# Altium schematic symbol library capacitors.SchLib: 29 symbols
Pins are listed as number, name and electrical type; pins without a type are passive.

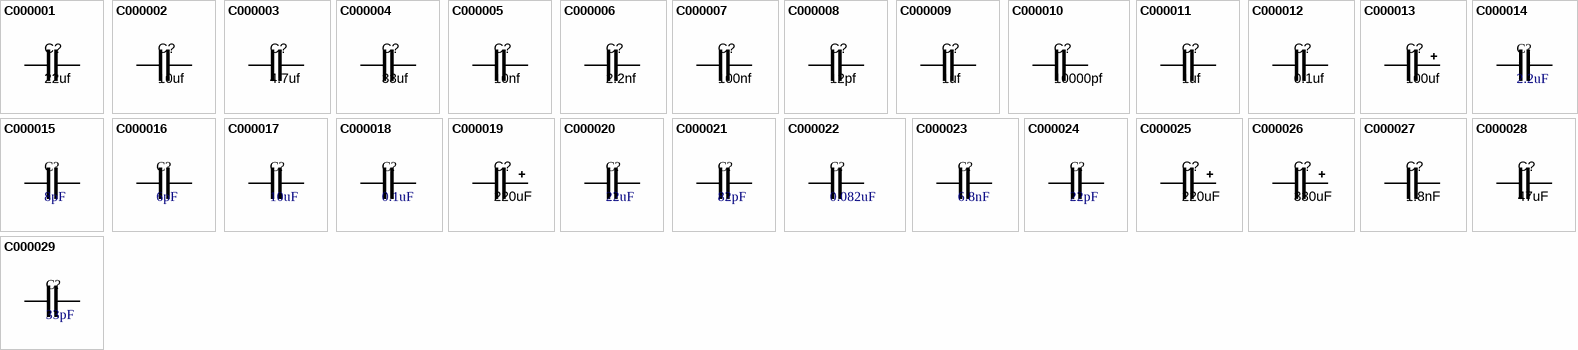
[diagram p0: symbols C000001 to C000029]

## C000001
designator C?, comment 22uf
CAP CER 22uF 0805 25V X5R; capaticanse: 22uf; ComponentLink1Description: digikey; ComponentLink1URL: https://www.digikey.com/en/products/detail/tdk-corporation/C2012X5R1E226M125AC/3661564
footprint CAP_0805 (Chip Capacitor, 2-Leads, Body 2.00x1.25mm, IPC Medium Density)
pins: 1, 2

## C000002
designator C?, comment 10uf
CAP CER 10uF 0805 25V X5R; capaticanse: 10uf; ComponentLink1Description: digikey; ComponentLink1URL: https://www.digikey.com/en/products/detail/tdk-corporation/C2012X5R1E106K125AB/2443462
footprint CAP_0805 (Chip Capacitor, 2-Leads, Body 2.00x1.25mm, IPC Medium Density)
pins: 1, 2

## C000003
designator C?, comment 4.7uf
CAP CER 4.7uF 0805 25V X5R; capaticanse: 4.7uf; ComponentLink1Description: digikey; ComponentLink1URL: https://www.digikey.com/en/products/detail/kemet/C0805C475K3PAC7800/1950665
footprint CAP_0805 (Chip Capacitor, 2-Leads, Body 2.00x1.25mm, IPC Medium Density)
pins: 1, 2

## C000004
designator C?, comment 33uf
CAP CER 33uF 1206 25V X5R; capaticanse: 33uf; ComponentLink1Description: digikey; ComponentLink1URL: https://www.digikey.com/en/products/detail/tdk-corporation/C3216X5R1E336M160AC/2792259
footprint CAP_1206 (Chip Capacitor, 2-Leads, Body 3.20x1.60mm, IPC Medium Density)
pins: 1, 2

## C000005
designator C?, comment 10nf
CAP CER 10nF 0603 25V X7R; capaticanse: 10nf; ComponentLink1Description: digikey; ComponentLink1URL: https://www.digikey.com/en/products/detail/kyocera-avx/06033C103MAT2A/1599370
footprint CAP_0603 (Chip Capacitor, 2-Leads, Body 1.60x0.80mm, IPC Medium Density)
pins: 1, 2

## C000006
designator C?, comment 2.2nf
CAP CER 2.2nF 0603 25V X7R; capaticanse: 2.2nf; ComponentLink1Description: digikey; ComponentLink1URL: https://www.digikey.com/en/products/detail/yageo/CC0603KRX7R8BB222/2345066
footprint CAP_0603 (Chip Capacitor, 2-Leads, Body 1.60x0.80mm, IPC Medium Density)
pins: 1, 2

## C000007
designator C?, comment 100nf
CAP CER 100nF 0603 25V X7R; capaticanse: 100nf; ComponentLink1Description: digikey; ComponentLink1URL: https://www.digikey.com/en/products/detail/kyocera-avx/06033C104K4T2A/8019250
footprint CAP_0603 (Chip Capacitor, 2-Leads, Body 1.60x0.80mm, IPC Medium Density)
pins: 1, 2

## C000008
designator C?, comment 12pf
CAP CER 12pF 0603 25V X7R; capaticanse: 12pf; ComponentLink1Description: digikey; ComponentLink1URL: https://www.digikey.com/en/products/detail/kemet/C0603C120J3GACAUTO/11675595
footprint CAP_0603 (Chip Capacitor, 2-Leads, Body 1.60x0.80mm, IPC Medium Density)
pins: 1, 2

## C000009
designator C?, comment 1uf
CAP CER 1uF 0603 16V X7R; capaticanse: 1uf; ComponentLink1Description: digikey; ComponentLink1URL: https://www.digikey.com/en/products/detail/samsung-electro-mechanics/CL10B105KO8NNNC/3886677; DigiKey part number: 1276-1019-2-ND
footprint CAP_0603 (Chip Capacitor, 2-Leads, Body 1.60x0.80mm, IPC Medium Density)
pins: 1, 2

## C000010
designator C?, comment 10000pf
CAP CER 10000PF 63V X7R 0603; capaticanse: 10000pf; ComponentLink1Description: digikey; ComponentLink1URL: https://www.digikey.com/en/products/detail/knowles-syfer/060330630103KXT/6565244; Digikey part number: 1608-1294-2-ND
footprint CAP_0603 (Chip Capacitor, 2-Leads, Body 1.60x0.80mm, IPC Medium Density)
pins: 1, 2

## C000011
designator C?, comment 1uf
CAP CER 1uF 10V X7R 0603; capaticanse: 1uf; ComponentLink1Description: digikey; ComponentLink1URL: https://www.digikey.com/en/products/detail/samsung-electro-mechanics/CL10B105KP8NNNC/3887604; DigiKey part number: 1276-1946-2-ND
footprint CAP_0603 (Chip Capacitor, 2-Leads, Body 1.60x0.80mm, IPC Medium Density)
pins: 1, 2

## C000012
designator C?, comment 0.1uf
CAP CER 0.1uF 10V X7R 0603; capaticanse: 0.1uf; ComponentLink1Description: digikey; ComponentLink1URL: https://www.digikey.com/en/products/detail/w%C3%BCrth-elektronik/885012206020/5453794; Digikey part number: 732-7939-2-ND
footprint CAP_0603 (Chip Capacitor, 2-Leads, Body 1.60x0.80mm, IPC Medium Density)
pins: 1, 2

## C000013
designator C?, comment 100uf
CAP ALUM POLY 100UF 20% 63V SMD; capaticanse: 100uf; ComponentLink1Description: digikey; ComponentLink1URL: https://www.digikey.com/en/products/detail/kemet/A767MU107M1JLAE028/7392906; DigiKey part number: 399-15648-2-ND
footprint CAPAE7366X60M (Aluminum Electrolytic Capacitor, Body 6.60x6.60x6.00mm, IPC Low Density)
pins: 1, 2

## C000014
designator C?, comment 2.2uF
CAP CER 2.2UF 16V X7S 0603; capaticanse: 2.2uF; ComponentLink1Description: Digikey; ComponentLink1URL: https://www.digikey.com/en/products/detail/murata-electronics/GRM188C71C225KE11D/4905311; Digikey Part Number: 490-12731-1-ND
footprint CAP_0603 (Chip Capacitor, 2-Leads, Body 1.60x0.80mm, IPC Medium Density)
pins: 1, 2

## C000015
designator C?, comment 8pF
CAP CER 8PF 25V C0G/NP0 01005; capacitanse: 8pF; ComponentLink1Description: DigiKey; ComponentLink1URL: https://www.digikey.com/en/products/detail/murata-electronics/GRM0225C1E8R0WA03L/6048112?s=N4IgjCBcoMxaBjKAzAhgGwM4FMA0IB7KAbRAHYAGAVhAF18AHAFyhAGUmAnASwDsBzEAF98YACzwQSSGix5CJcFQCcAJjFk6jFpHZc%2BgkSFUUxyydNk58RSKQAcAAgYAxLSGasAqr25MA8sgAstiomACunNjC%2BAC0qhZQXOHytqQ0tEJGCXZSqAyoCH4EnHRCQA; DigiKey Part Number: 490-13716-2-ND
footprint CAP_0402 (Chip Capacitor, 2-Leads, Body 0.40x0.20mm, IPC Medium Density)
pins: 1, 2

## C000016
designator C?, comment 6pF
CAP CER 6PF 25V C0G/NP0 0402; capacitanse: 6pF; DigiKey Part Number: 399-CBR04C609D3GACCT-ND; ComponentLink1Description: DigiKey; ComponentLink1URL: https://www.digikey.com/en/products/detail/kemet/CBR04C609D3GAC/18137865?s=N4IgjCBcpgLFoDGUBmBDANgZwKYBoQB7KAbXAFYBOAJlgHYQBdAgBwBcoQBlNgJwEsAdgHMQAXwJgAbAhDJI6bPiKkQAZkphyADiasOkbnyGiJIagAZYlWfMW4CxSGSkACFgDE9IdpwCqgvxsAPIoALI4aFgArrw44gQAtNS2UHzRyk5k5ExieUA
footprint CAP_0402 (Chip Capacitor, 2-Leads, Body 0.40x0.20mm, IPC Medium Density)
pins: 1, 2

## C000017
designator C?, comment 10uF
CAP CER 10UF 50V X7R 1206; capacitance: 10uF; ComponentLink1Description: DigiKey; ComponentLink1URL: https://www.digikey.com/en/products/detail/samsung-electro-mechanics/CL31B106KBHNNNE/5961251; DigiKey Part Number: 1276-6767-1-ND
footprint CAP_1206 (Chip Capacitor, 2-Leads, Body 3.20x1.60mm, IPC Medium Density)
pins: 1, 2

## C000018
designator C?, comment 0.1uF
CAP CER 0.1UF 50V X7R 0603; capacitance: 0.1uF; ComponentLink1Description: DigiKey; ComponentLink1URL: https://www.digikey.com/en/products/detail/samsung-electro-mechanics/CL10B104KB8NNNC/3886658; DigiKey Part Number: 1276-1000-1-ND
footprint CAP_0603 (Chip Capacitor, 2-Leads, Body 1.60x0.80mm, IPC Medium Density)
pins: 1, 2

## C000019
designator C?, comment 220uF
CAP ALUM 220UF 20% 50V SMD; capaticanse: 220uF; ComponentLink1Description: digikey; ComponentLink1URL: https://www.digikey.com/en/products/detail/nichicon/UCW1H221MNL1GS/2549783; DigiKey part number: 493-9426-1-ND
footprint CAPAE109103X103M (Aluminum Electrolytic Capacitor, Body 10.30x10.30x10.30mm, IPC Low Density)
pins: 1, 2

## C000020
designator C?, comment 22uF
22 µF ±10% 25V Ceramic Capacitor X5R 1206 (3216 Metric); capacitance: 22uF; ComponentLink1Description: DigiKey; ComponentLink1URL: https://www.digikey.com/en/products/detail/samsung-electro-mechanics/CL31A226KAHNNNE/3888705; DigiKey Part Number: 1276-3047-1-ND
footprint CAP_1206 (Chip Capacitor, 2-Leads, Body 3.20x1.60mm, IPC Medium Density)
pins: 1, 2

## C000021
designator C?, comment 82pF
82 pF ±1% 25V Ceramic Capacitor C0G, NP0 0603 (1608 Metric); capacitance: 82pF; ComponentLink1Description: DigiKey; ComponentLink1URL: https://www.digikey.com/en/products/detail/kyocera-avx/KGM15ACG1E820FT/1599315?s=N4IgjCBcoMxaBjKAzAhgGwM4FMA0IB7KAbXDBggF18AHAFyhAGU6AnASwDsBzEAX3xgALPBBJIaLHkIlwAVgCcAJiEB2ENRD1GLDj36CAbKPGSc%2BIpFIxlQ45u2RmbLrwEglABiEKTKDOYyViAAHEoABDQAYhq0DE4AqpzsdADyyACy2KiYAK6s2AYgALRKfpBsudKWpHIafA1AA; DigiKey Part Number: 478-KGM15ACG1E820FTCT-ND
footprint CAP_0603 (Chip Capacitor, 2-Leads, Body 1.60x0.80mm, IPC Medium Density)
pins: 1, 2

## C000022
designator C?, comment 0.082uF
0.082 µF ±10% 25V Ceramic Capacitor X7R 0603 (1608 Metric); capacitance: 0.082uF; ComponentLink1Description: DigiKey; ComponentLink1URL: https://www.digikey.com/en/products/detail/kemet/C0603C823K3RAC7867/2201254; DigiKey Part Number: 399-C0603C823K3RAC7867CT-ND
footprint CAP_0603 (Chip Capacitor, 2-Leads, Body 1.60x0.80mm, IPC Medium Density)
pins: 1, 2

## C000023
designator C?, comment 6.8nF
6800 pF ±10% 25V Ceramic Capacitor X7R 0603 (1608 Metric); capacitance: 6.8nF; ComponentLink1Description: DigiKey; ComponentLink1URL: https://www.digikey.com/en/products/detail/yageo/CC0603KRX7R8BB682/5883791; DigiKey Part Number: 311-4090-1-ND
footprint CAP_0603 (Chip Capacitor, 2-Leads, Body 1.60x0.80mm, IPC Medium Density)
pins: 1, 2

## C000024
designator C?, comment 22pF
22 pF ±10% 25V Ceramic Capacitor X7R 0603 (1608 Metric); capacitance: 22pF; ComponentLink1Description: DigiKey; ComponentLink1URL: https://www.digikey.com/en/products/detail/kemet/C0603C220K3RACAUTO/16524857; DigiKey Part Number: 399-C0603C220K3RACAUTOCT-ND
footprint CAP_0603 (Chip Capacitor, 2-Leads, Body 1.60x0.80mm, IPC Medium Density)
pins: 1, 2

## C000025
designator C?, comment 220uF
220 µF 10 V Aluminum - Polymer Capacitors Radial, Can - SMD 20mOhm 2000 Hrs @ 105°C; capaticanse: 220uF; ComponentLink1Description: digikey; ComponentLink1URL: https://www.digikey.com/en/products/detail/kemet/A765KN227M1ALAE020/6196558; DigiKey part number: 399-A765KN227M1ALAE020CT-ND
footprint CAPAE9083X100M (Aluminum Electrolytic Capacitor, Body 8.30x8.30x10.00mm, IPC Low Density)
pins: 1, 2

## C000026
designator C?, comment 330uF
330 µF 50 V Aluminum Electrolytic Capacitors Radial, Can - SMD 120mOhm @ 100kHz 2000 Hrs @ 105°C; capaticanse: 330uF; ComponentLink1Description: digikey; ComponentLink1URL: https://www.digikey.com/en/products/detail/chemi-con/EMZR500ARA331MJA0G/5824768; DigiKey part number: 565-EMZR500ARA331MJA0GCT-ND
footprint CAPAE109103X103M (Aluminum Electrolytic Capacitor, Body 10.30x10.30x10.30mm, IPC Low Density)
pins: 1, 2

## C000027
designator C?, comment 1.8nF
1800 pF ±10% 25V Ceramic Capacitor X7R 0603 (1608 Metric); capaticanse: 1.8nF; ComponentLink1Description: digikey; ComponentLink1URL: https://www.digikey.com/en/products/detail/kemet/C0603C182K3RAC7867/2200107; DigiKey Part Number: 399-15370-1-ND
footprint CAP_0603 (Chip Capacitor, 2-Leads, Body 1.60x0.80mm, IPC Medium Density)
pins: 1, 2

## C000028
designator C?, comment 47uF
47 µF ±20% 25V Ceramic Capacitor X5R 1210 (3225 Metric); capaticanse: 47uF; ComponentLink1Description: DigiKey; ComponentLink1URL: https://www.digikey.com/en/products/detail/taiyo-yuden/MSAST32MAB5476MPNDT1/16661322?s=N4IgTCBcDaILIGUCCCAqBmMckCECsALAOwBscACgHIAiqAjCALoC%2BQA; DigiKey Part Number: 587-MSAST32MAB5476MPNDT1CT-ND; Mouser Part Number: 963-MSAST32MAB5476MP; ComponentLink2Description: Mouser; ComponentLink2URL: https://eu.mouser.com/ProductDetail/TAIYO-YUDEN/MSAST32MAB5476MPNDT1?qs=tlsG%2FOw5FFjVcfO8xtWwSA%3D%3D
footprint CAP_1210 (Chip Capacitor, 2-Leads, Body 3.20x2.50mm, IPC Medium Density)
pins: 1, 2

## C000029
designator C?, comment 33pF
33 pF ±5% 25V Ceramic Capacitor C0G, NP0 0603 (1608 Metric); capacitance: 33pF; ComponentLink1Description: DigiKey; ComponentLink1URL: https://www.digikey.com/en/products/detail/yageo/CC0603JRNPO8BN330/5883595; DigiKey Part Number: 311-3954-1-ND
footprint CAP_0603 (Chip Capacitor, 2-Leads, Body 1.60x0.80mm, IPC Medium Density)
pins: 1, 2